# Altium schematic symbol library SparkFun-PowerSymbols.SCHLIB: 25 symbols
Pins are listed as number, name and electrical type; pins without a type are passive.

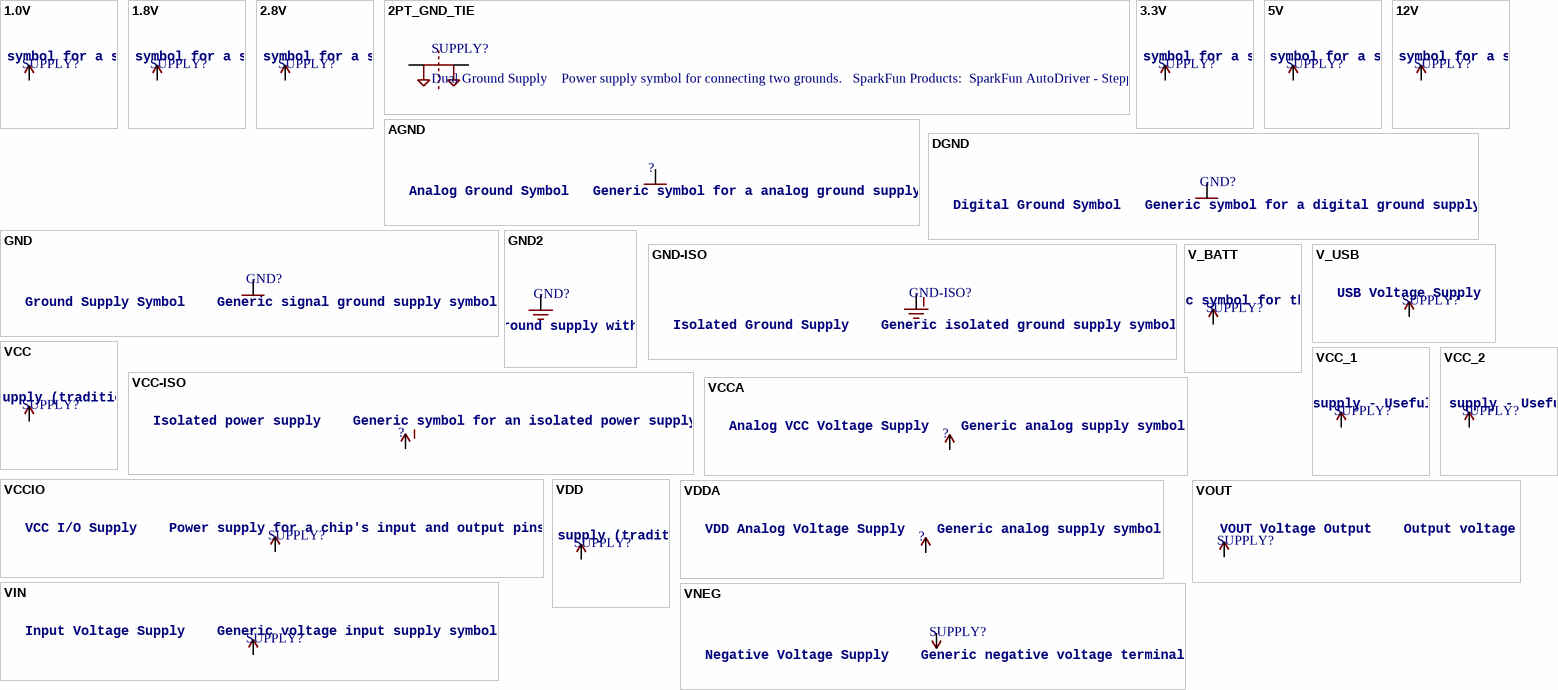
[diagram p0: symbols 1.0V to VOUT]

## 1.0V
designator SUPPLY?, comment 1.0V Supply Symbol    Power supply symbol for a specifically-stated 1.0V source.
pins: ?1 1.0V (oe)

## 1.8V
designator SUPPLY?, comment 1.8V Supply Symbol    Power supply symbol for a specifically-stated 1.8V source.
pins: ?1 1.8V (oe)

## 2.8V
designator SUPPLY?, comment 2.8V Supply Symbol    Power supply symbol for a specifically-stated 2.8V source.
pins: ?1 2.8V (oe)

## 2PT_GND_TIE
designator SUPPLY?, comment Dual Ground Supply    Power supply symbol for connecting two grounds.   SparkFun Products:  SparkFun AutoDriver - Stepper Motor Driver
footprint 2PT_GND_TIE
pins: P$1, P$2

## 3.3V
designator SUPPLY?, comment 3.3V Supply Symbol    Power supply symbol for a specifically-stated 3.3V source.
pins: ?1 3.3V (oe)

## 5V
designator SUPPLY?, comment 5V Supply Symbol    Power supply symbol for a specifically-stated 5V source.
pins: ?1 5V (oe)

## 12V
designator SUPPLY?, comment 12V Supply Symbol    Power supply symbol for a specifically-stated 12V source.
pins: ?1 12V (oe)

## AGND
designator ?, comment Analog Ground Symbol   Generic symbol for a analog ground supply.
pins: ?1 AGND (oe)

## DGND
designator GND?, comment Digital Ground Symbol   Generic symbol for a digital ground supply.
pins: ?1 GND (oe)

## GND
designator GND?, comment Ground Supply Symbol    Generic signal ground supply symbol.
pins: ?1 GND (oe)

## GND2
designator GND?, comment Ground Supply (Earth Ground style)    Ground supply with a traditional "earth ground" symbol.
pins: ?1 3.3V (oe)

## GND-ISO
designator GND-ISO?, comment Isolated Ground Supply    Generic isolated ground supply symbol.
pins: ?1 GND-ISO (oe)

## V_BATT
designator SUPPLY?, comment Battery Voltage Supply    Generic symbol for the battery input to a system.
pins: ?1 V_BATT (oe)

## V_USB
designator SUPPLY?, comment USB Voltage Supply
pins: ?1 V_USB (oe)

## VCC
designator SUPPLY?, comment VCC Voltage Supply    Positive voltage supply (traditionally for a BJT device, C=collector).
pins: ?1 VCC (oe)

## VCC-ISO
designator ?, comment Isolated power supply    Generic symbol for an isolated power supply.
pins: ?1 VCC-ISO (oe)

## VCC_1
designator SUPPLY?, comment VCC1 Voltage Supply    Primary VCC voltage supply - Useful for a system with multiple VCC supplies.
pins: ?1 VCC_1 (oe)

## VCC_2
designator SUPPLY?, comment VCC2 Voltage Supply    Secondary VCC voltage supply - Useful for a system with multiple VCC supplies.
pins: ?1 VCC_2 (oe)

## VCCA
designator ?, comment Analog VCC Voltage Supply    Generic analog supply symbol.
pins: ?1 VCCA (oe)

## VCCIO
designator SUPPLY?, comment VCC I/O Supply    Power supply for a chip's input and output pins.
pins: ?1 VCCIO (oe)

## VDD
designator SUPPLY?, comment VDD Voltage Supply    Positive voltage supply (traditionally for a CMOS device, D=drain).
pins: ?1 VDD (oe)

## VDDA
designator ?, comment VDD Analog Voltage Supply    Generic analog supply symbol.
pins: ?1 VDDA (oe)

## VIN
designator SUPPLY?, comment Input Voltage Supply    Generic voltage input supply symbol.
pins: ?1 VIN (oe)

## VNEG
designator SUPPLY?, comment Negative Voltage Supply    Generic negative voltage terminal.
pins: ?1 VNEG (oe)

## VOUT
designator SUPPLY?, comment VOUT Voltage Output    Output voltage
pins: ?1 VOUT (oe)